# Altium footprint library usb_connectorA.PcbLib: 1 footprints
Each footprint in its own frame and in the unit in brackets; x right, y up, seen from the top. Pads: shape width x height; smd on the part's side, far side on the other; paste and mask are expansions set on the pad; w line width, h text height; cw(c..) or ccw(c..) is an arc to the next point about the centre after c.
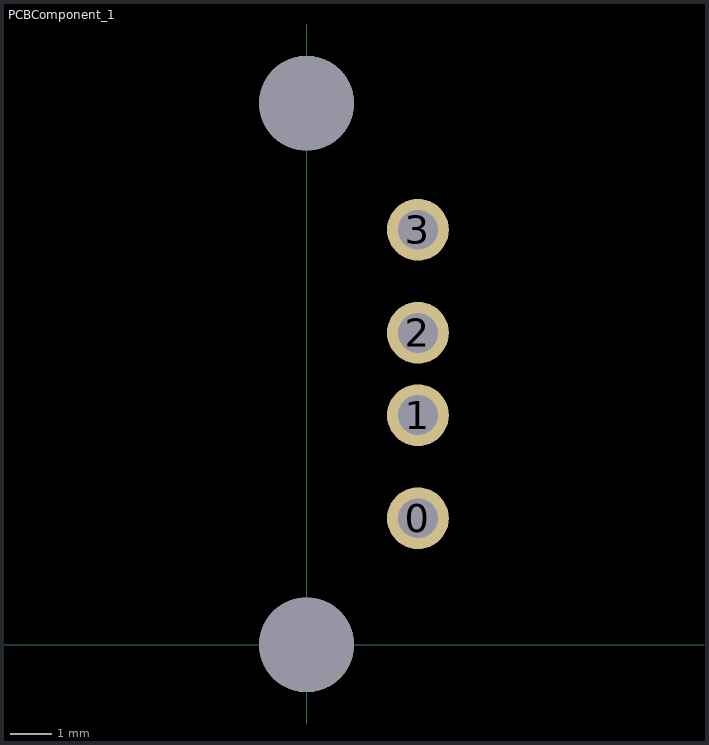
[diagram p0: the footprint, top view; thin cyan lines are the x and y axes]

## PCBComponent_1 [mm]
pads (6):
  round 1.5 hole 0.97: 0(2.7,3.07) 1(2.7,5.57) 2(2.7,7.57) 3(2.7,10.07)
  round 2.3 hole 2.3: ""(0,0) ""(0,13.14)